# EAGLE library part USB5734 (library Microchip)
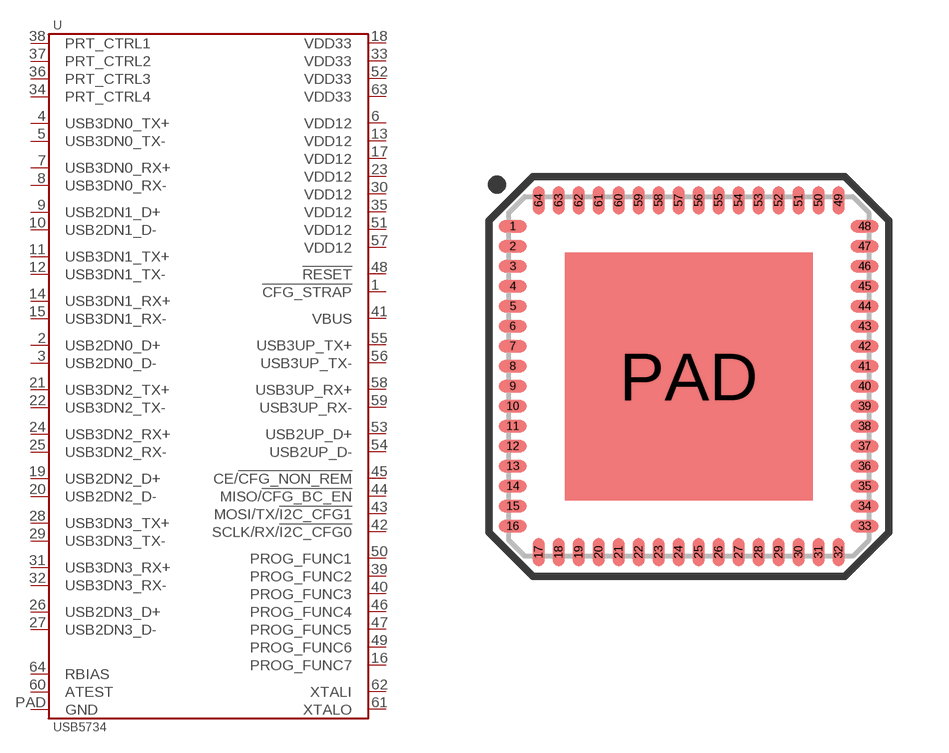
[diagram p18: symbol with the pads of VQFN-64-9MM; footprint VQFN-64-9MM]

Designator prefix U

## USB5734-I/MR  [VQFN-64-9MM]
1  !CFG_STRAP
2  USB2DN0_D+
3  USB2DN0_D-
4  USB3DN0_TX+
5  USB3DN0_TX-
6  VDD12
7  USB3DN0_RX+
8  USB3DN0_RX-
9  USB2DN1_D+
10  USB2DN1_D-
11  USB3DN1_TX+
12  USB3DN1_TX-
13  VDD12
14  USB3DN1_RX+
15  USB3DN1_RX-
16  PROG_FUNC7
17  VDD12
18  VDD33
19  USB2DN2_D+
20  USB2DN2_D-
21  USB3DN2_TX+
22  USB3DN2_TX-
23  VDD12
24  USB3DN2_RX+
25  USB3DN2_RX-
26  USB2DN3_D+
27  USB2DN3_D-
28  USB3DN3_TX+
29  USB3DN3_TX-
30  VDD12
31  USB3DN3_RX+
32  USB3DN3_RX-
33  VDD33
34  PRT_CTRL4
35  VDD12
36  PRT_CTRL3
37  PRT_CTRL2
38  PRT_CTRL1
39  PROG_FUNC2
40  PROG_FUNC3
41  VBUS
42  SCLK/RX/!I2C_CFG0
43  MOSI/TX/!I2C_CFG1
44  MISO/!CFG_BC_EN
45  CE/!CFG_NON_REM
46  PROG_FUNC4
47  PROG_FUNC5
48  !RESET
49  PROG_FUNC6
50  PROG_FUNC1
51  VDD12
52  VDD33
53  USB2UP_D+
54  USB2UP_D-
55  USB3UP_TX+
56  USB3UP_TX-
57  VDD12
58  USB3UP_RX+
59  USB3UP_RX-
60  ATEST
61  XTALO
62  XTALI
63  VDD33
64  RBIAS
PAD  GND

## Footprint VQFN-64-9MM (pad centres in mm)
smd 0.7 x 0.3: 1 -4.4,3.75; 2 -4.4,3.25; 3 -4.4,2.75; 4 -4.4,2.25; 5 -4.4,1.75; 6 -4.4,1.25; 7 -4.4,0.75; 8 -4.4,0.25; 9 -4.4,-0.25; 10 -4.4,-0.75; 11 -4.4,-1.25; 12 -4.4,-1.75; 13 -4.4,-2.25; 14 -4.4,-2.75; 15 -4.4,-3.25; 16 -4.4,-3.75; 33 4.4,-3.75; 34 4.4,-3.25; 35 4.4,-2.75; 36 4.4,-2.25; 37 4.4,-1.75; 38 4.4,-1.25; 39 4.4,-0.75; 40 4.4,-0.25; 41 4.4,0.25; 42 4.4,0.75; 43 4.4,1.25; 44 4.4,1.75; 45 4.4,2.25; 46 4.4,2.75; 47 4.4,3.25; 48 4.4,3.75
smd 0.3 x 0.7: 17 -3.75,-4.4; 18 -3.25,-4.4; 19 -2.75,-4.4; 20 -2.25,-4.4; 21 -1.75,-4.4; 22 -1.25,-4.4; 23 -0.75,-4.4; 24 -0.25,-4.4; 25 0.25,-4.4; 26 0.75,-4.4; 27 1.25,-4.4; 28 1.75,-4.4; 29 2.25,-4.4; 30 2.75,-4.4; 31 3.25,-4.4; 32 3.75,-4.4; 49 3.75,4.4; 50 3.25,4.4; 51 2.75,4.4; 52 2.25,4.4; 53 1.75,4.4; 54 1.25,4.4; 55 0.75,4.4; 56 0.25,4.4; 57 -0.25,4.4; 58 -0.75,4.4; 59 -1.25,4.4; 60 -1.75,4.4; 61 -2.25,4.4; 62 -2.75,4.4; 63 -3.25,4.4; 64 -3.75,4.4
smd 6.2 x 6.2: PAD 0,0